# EAGLE library part ESP32 (library LARS_409_MK)
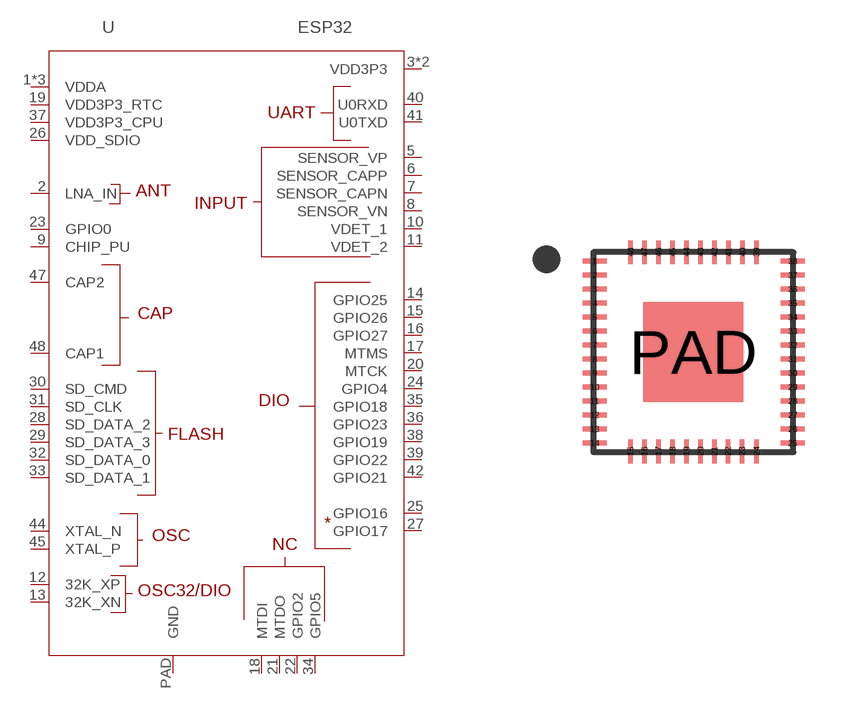
[diagram p9: symbol with the pads of QFN48(5X5MM); footprint QFN48(5X5MM)]

Designator prefix U

## ESP32  [QFN48(5X5MM)]
1  VDDA
2  LNA_IN
3  VDD3P3
4  VDD3P3
5  SENSOR_VP
6  SENSOR_CAPP
7  SENSOR_CAPN
8  SENSOR_VN
9  CHIP_PU
10  VDET_1
11  VDET_2
12  32K_XP
13  32K_XN
14  GPIO25
15  GPIO26
16  GPIO27
17  MTMS
18  MTDI
19  VDD3P3_RTC
20  MTCK
21  MTDO
22  GPIO2
23  GPIO0
24  GPIO4
25  GPIO16
26  VDD_SDIO
27  GPIO17
28  SD_DATA_2
29  SD_DATA_3
30  SD_CMD
31  SD_CLK
32  SD_DATA_0
33  SD_DATA_1
34  GPIO5
35  GPIO18
36  GPIO23
37  VDD3P3_CPU
38  GPIO19
39  GPIO22
40  U0RXD
41  U0TXD
42  GPIO21
43  VDDA
44  XTAL_N
45  XTAL_P
46  VDDA
47  CAP2
48  CAP1
PAD  GND

## Footprint QFN48(5X5MM) (pad centres in mm)
smd 0.6 x 0.12: 1 -2.47,2.275; 2 -2.47,1.925; 3 -2.47,1.575; 4 -2.47,1.225; 5 -2.47,0.875; 6 -2.47,0.525; 7 -2.47,0.175; 8 -2.47,-0.175; 9 -2.47,-0.525; 10 -2.47,-0.875; 11 -2.47,-1.225; 12 -2.47,-1.575; 13 -2.47,-1.925; 14 -2.47,-2.275; 25 2.48,-2.275; 26 2.48,-1.925; 27 2.48,-1.575; 28 2.48,-1.225; 29 2.48,-0.875; 30 2.48,-0.525; 31 2.48,-0.175; 32 2.48,0.175; 33 2.48,0.525; 34 2.48,0.875; 35 2.48,1.225; 36 2.48,1.575; 37 2.48,1.925; 38 2.48,2.275
smd 0.12 x 0.6: 15 -1.575,-2.48; 16 -1.225,-2.48; 17 -0.875,-2.48; 18 -0.525,-2.48; 19 -0.175,-2.48; 20 0.175,-2.48; 21 0.525,-2.48; 22 0.865,-2.48; 23 1.215,-2.48; 24 1.575,-2.48; 39 1.575,2.495; 40 1.225,2.495; 41 0.875,2.495; 42 0.525,2.495; 43 0.175,2.495; 44 -0.175,2.495; 45 -0.525,2.495; 46 -0.875,2.495; 47 -1.225,2.495; 48 -1.575,2.495
smd 2.5 x 2.5: PAD 0,0